# Altium schematic symbol library FUSE 3A 63V SLOW.Schlib: 1 symbol
Pins are listed as number, name and electrical type; pins without a type are passive.

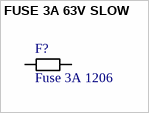
[diagram p0: symbol FUSE 3A 63V SLOW]

## FUSE 3A 63V SLOW
designator F?, comment Fuse 3A 1206
FUSE 3A 63V AC/DC SLOW 1206; Response Time: Slow Blow; Operating Temperature: -55°C ~ 90°C; Voltage Rating - DC: 63V
footprint 1206
pins: 1, 2